# EAGLE library part 618026330923 (library InputOutputIO (rev18a))
WR-DSUB Female High Density Angled PCB Connector with Hex Screw, 26 Pins=>Code : Con_I-O_DSUB_PCB_Female_w-screw_618026330923 <http://katalog.we-online.de/media/images/eican/Con_I-O_DSUB_PCB_Female_w-screw_6180xx330923_pf2.jpg> Details see: http://katalog.we-online.de/en/em/DSUB_FEMALE_HIGH_DENSITY_ANGLED_PCB_CONNECTOR_W_HEX_SCREW_6180XX330923 Created 2014-07-10, Karrer Zheng 2014 (C) Würth Elektronik
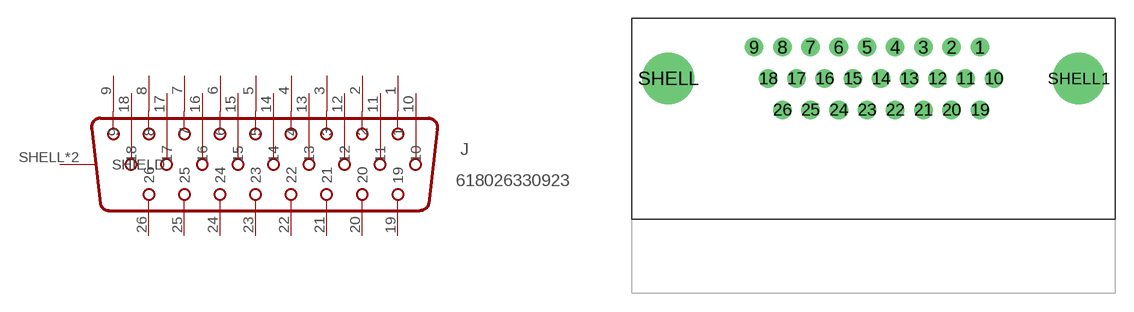
[diagram p57: symbol with the pads of 618026330923; footprint 618026330923]

Designator prefix J

## 618026330923  [618026330923]
1  1
2  2
3  3
4  4
5  5
6  6
7  7
8  8
9  9
10  10
11  11
12  12
13  13
14  14
15  15
16  16
17  17
18  18
19  19
20  20
21  21
22  22
23  23
24  24
25  25
26  26
SHELL  SHIELD
SHELL1  SHIELD

## Footprint 618026330923 (pad centres in mm)
WR-DSUB Female High Density Angled PCB Connector with Hex Screw, 26 Pins
drill 1: 1 8.63,2.54; 2 6.34,2.54; 3 4.05,2.54; 4 1.76,2.54; 5 -0.53,2.54; 6 -2.82,2.54; 7 -5.11,2.54; 8 -7.4,2.54; 9 -9.69,2.54; 10 9.77,0; 11 7.48,0; 12 5.19,0; 13 2.9,0; 14 0.61,0; 15 -1.68,0; 16 -3.97,0; 17 -6.26,0; 18 -8.55,0; 19 8.63,-2.54; 20 6.34,-2.54; 21 4.05,-2.54; 22 1.76,-2.54; 23 -0.53,-2.54; 24 -2.82,-2.54; 25 -5.11,-2.54; 26 -7.4,-2.54
drill 3.2: SHELL -16.65,0; SHELL1 16.65,0